# Altium footprint library header2.PcbLib: 1 footprints
Each footprint in its own frame and in the unit in brackets; x right, y up, seen from the top. Pads: shape width x height; smd on the part's side, far side on the other; paste and mask are expansions set on the pad; w line width, h text height; cw(c..) or ccw(c..) is an arc to the next point about the centre after c.
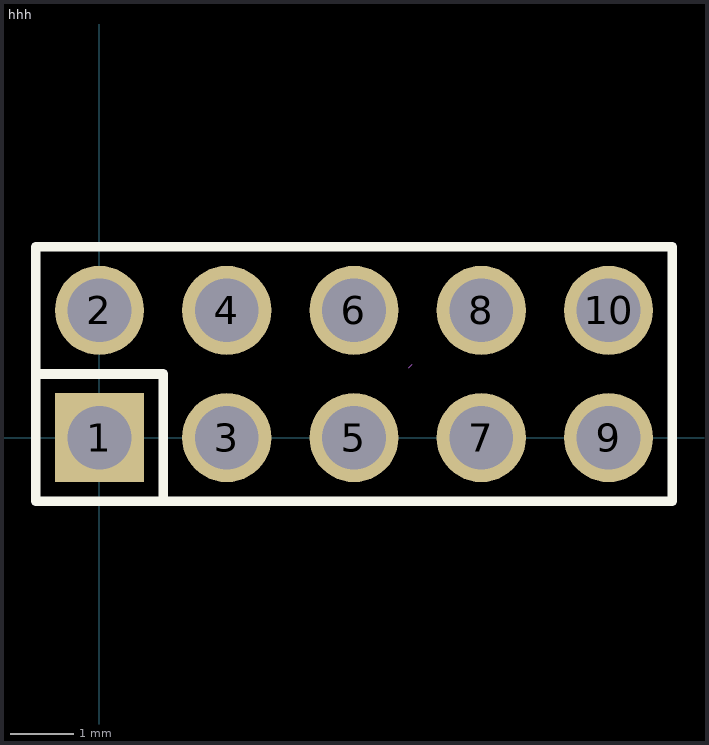
[diagram p0: the footprint, top view; thin cyan lines are the x and y axes]

## hhh [mm]
pads (10):
  rect 1.4x1.4 hole 1: 1(0,0)
  round 1.4 hole 1: 2(0,2) 3(2,0) 4(2,2) 5(4,0) 6(4,2) 7(6,0) 8(6,2) 9(8,0) 10(8,2)
Top Overlay:
  lines w0.15: -1,1 1,1 1,-1 ; -1,-1 9,-1 9,3 -1,3 -1,-1
Mechanical 15:
  lines w0.003: 4.864,1.102 4.914,1.152